# EAGLE library part LTC3422 (library dc-dc-regulators)
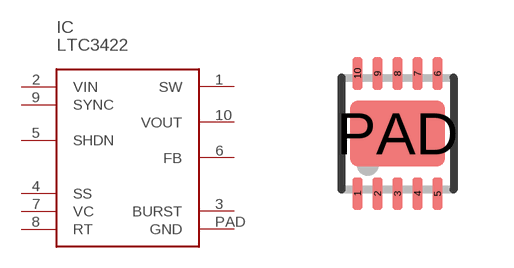
[diagram p6: symbol with the pads of DFN10-3X3; footprint DFN10-3X3]

Designator prefix IC

## LTC3422  [DFN10-3X3]
1  SW
2  VIN
3  BURST
4  SS
5  SHDN
6  FB
7  VC
8  RT
9  SYNC
10  VOUT
PAD  GND

## Footprint DFN10-3X3 (pad centres in mm)
DD Package 10-Lead Plastic DFN (3mm × 3mm) (Reference LTC DWG # 05-08-1669) Source: http://www.linear.com .. 4062fa.pdf
smd 0.25 x 0.8: 1 -1,-1.5; 2 -0.5,-1.5; 3 0,-1.5; 4 0.5,-1.5; 5 1,-1.5; 6 1,1.5; 7 0.5,1.5; 8 0,1.5; 9 -0.5,1.5; 10 -1,1.5
smd 2.38 x 1.65: PAD 0,0